# Altium schematic symbol library AG1280.SchLib: 2 symbols
Pins are listed as number, name and electrical type; pins without a type are passive.

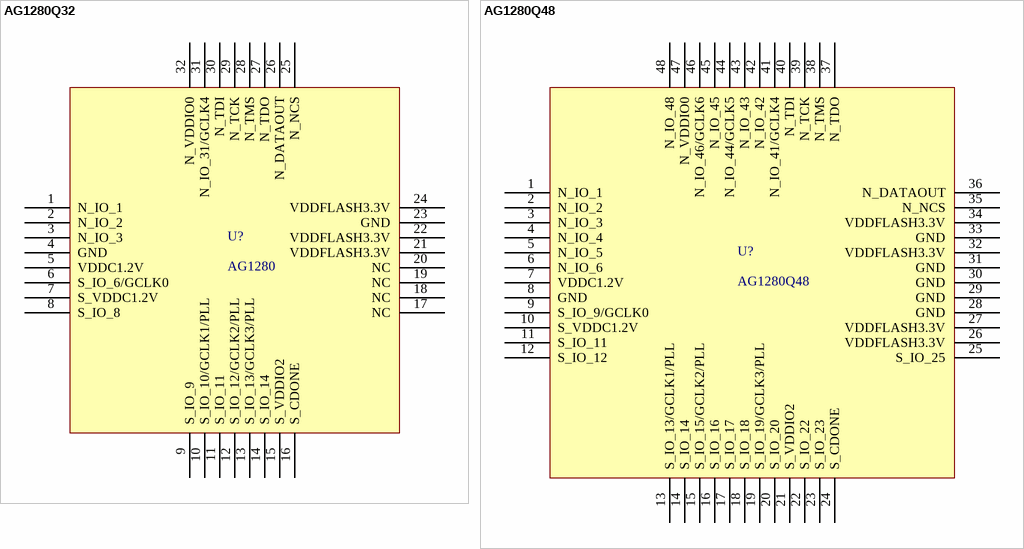
[diagram p0: symbols AG1280Q32 to AG1280Q48]

## AG1280Q32
designator U?, comment AG1280
footprint QFN32 5x5_M (32脚，长x宽x高：5x5x0.95mm，脚距：0.5mm)
pins: 1 N_IO_1, 2 N_IO_2, 3 N_IO_3, 4 GND, 5 VDDC1.2V, 6 S_IO_6/GCLK0, 7 S_VDDC1.2V, 8 S_IO_8, 9 S_IO_9, 10 S_IO_10/GCLK1/PLL, 11 S_IO_11, 12 S_IO_12/GCLK2/PLL, 13 S_IO_13/GCLK3/PLL, 14 S_IO_14, 15 S_VDDIO2, 16 S_CDONE, 17 NC, 18 NC, 19 NC, 20 NC, 21 VDDFLASH3.3V, 22 VDDFLASH3.3V, 23 GND, 24 VDDFLASH3.3V, 25 N_NCS, 26 N_DATAOUT, 27 N_TDO, 28 N_TMS, 29 N_TCK, 30 N_TDI, 31 N_IO_31/GCLK4, 32 N_VDDIO0

## AG1280Q48
designator U?
footprint QFN48 6X6 (QFN, 48-Leads, Body 7.00x7.00mm, Pitch 0.50mm, Thermal Pad 5.73x5.73mm, IPC Medium Density)
pins: 1 N_IO_1, 2 N_IO_2, 3 N_IO_3, 4 N_IO_4, 5 N_IO_5, 6 N_IO_6, 7 VDDC1.2V, 8 GND, 9 S_IO_9/GCLK0, 10 S_VDDC1.2V, 11 S_IO_11, 12 S_IO_12, 13 S_IO_13/GCLK1/PLL, 14 S_IO_14, 15 S_IO_15/GCLK2/PLL, 16 S_IO_16, 17 S_IO_17, 18 S_IO_18, 19 S_IO_19/GCLK3/PLL, 20 S_IO_20, 21 S_VDDIO2, 22 S_IO_22, 23 S_IO_23, 24 S_CDONE, 25 S_IO_25, 26 VDDFLASH3.3V, 27 VDDFLASH3.3V, 28 GND, 29 GND, 30 GND, 31 GND, 32 VDDFLASH3.3V, 33 GND, 34 VDDFLASH3.3V, 35 N_NCS, 36 N_DATAOUT, 37 N_TDO, 38 N_TMS, 39 N_TCK, 40 N_TDI, 41 N_IO_41/GCLK4, 42 N_IO_42, 43 N_IO_43, 44 N_IO_44/GCLK5, 45 N_IO_45, 46 N_IO_46/GCLK6, 47 N_VDDIO0, 48 N_IO_48